# Altium schematic symbol library resistors.SchLib: 4 symbols
Pins are listed as number, name and electrical type; pins without a type are passive.

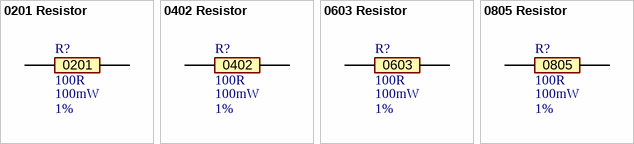
[diagram p0: symbols 0201 Resistor to 0805 Resistor]

## 0201 Resistor
designator R?, comment value 100R  TOLERANCE: 1%  RATED_POWER: 100mW  (hidden comment: Generic)
PADS: 2; DATASHEET: *; COMPOSITION: *; COMP_TYPE: *; COMP_TYPE_SUB: *; DEVICE_CREATION_METHOD: *; DEVICE_VERIFIED: *; DISTRIBUTOR1: *; DISTRIBUTOR1_ORDER_CODE: *; DISTRIBUTOR2: *; DISTRIBUTOR2_ORDER_CODE: *; FUNCTION: *; HEIGHT: *; MANUFACTURER: *; MOUNTING_STYLE: *; MSL: *; OPERATING_TEMP_MAX: *; OPERATING_TEMP_MIN: *; PACKAGE: 0201; PART_NUMBER: *; PINS: 0; PITCH: *; POP_UNPOP: *; ROHS_EU_COMPLIANT: *; TEMPERATURE_COEFFICIENT: *; Parameter 1: *
pins: 1, 2

## 0402 Resistor
designator R?, comment value 100R  TOLERANCE: 1%  RATED_POWER: 100mW  (hidden comment: Generic)
PADS: 2; DATASHEET: *; COMPOSITION: *; COMP_TYPE: *; COMP_TYPE_SUB: *; DEVICE_CREATION_METHOD: *; DEVICE_VERIFIED: *; DISTRIBUTOR1: *; DISTRIBUTOR1_ORDER_CODE: *; DISTRIBUTOR2: *; DISTRIBUTOR2_ORDER_CODE: *; FUNCTION: *; HEIGHT: *; MANUFACTURER: *; MOUNTING_STYLE: *; MSL: *; OPERATING_TEMP_MAX: *; OPERATING_TEMP_MIN: *; PACKAGE: 0402; PART_NUMBER: *; PINS: 0; PITCH: *; POP_UNPOP: *; ROHS_EU_COMPLIANT: *; TEMPERATURE_COEFFICIENT: *; Parameter 1: *
pins: 1, 2

## 0603 Resistor
designator R?, comment value 100R  TOLERANCE: 1%  RATED_POWER: 100mW  (hidden comment: Generic)
PADS: 2; DATASHEET: *; COMPOSITION: *; COMP_TYPE: *; COMP_TYPE_SUB: *; DEVICE_CREATION_METHOD: *; DEVICE_VERIFIED: *; DISTRIBUTOR1: *; DISTRIBUTOR1_ORDER_CODE: *; DISTRIBUTOR2: *; DISTRIBUTOR2_ORDER_CODE: *; FUNCTION: *; HEIGHT: *; MANUFACTURER: *; MOUNTING_STYLE: *; MSL: *; OPERATING_TEMP_MAX: *; OPERATING_TEMP_MIN: *; PACKAGE: 0603; PART_NUMBER: *; PINS: 0; PITCH: *; POP_UNPOP: *; ROHS_EU_COMPLIANT: *; TEMPERATURE_COEFFICIENT: *; Parameter 1: *
pins: 1, 2

## 0805 Resistor
designator R?, comment value 100R  TOLERANCE: 1%  RATED_POWER: 100mW  (hidden comment: Generic)
PADS: 2; DATASHEET: *; COMPOSITION: *; COMP_TYPE: *; COMP_TYPE_SUB: *; DEVICE_CREATION_METHOD: *; DEVICE_VERIFIED: *; DISTRIBUTOR1: *; DISTRIBUTOR1_ORDER_CODE: *; DISTRIBUTOR2: *; DISTRIBUTOR2_ORDER_CODE: *; FUNCTION: *; HEIGHT: *; MANUFACTURER: *; MOUNTING_STYLE: *; MSL: *; OPERATING_TEMP_MAX: *; OPERATING_TEMP_MIN: *; PACKAGE: 0805; PART_NUMBER: *; PINS: 0; PITCH: *; POP_UNPOP: *; ROHS_EU_COMPLIANT: *; TEMPERATURE_COEFFICIENT: *; Parameter 1: *
pins: 1, 2